# Altium schematic symbol library Библиотека УГО.SchLib: 2 symbols
Pins are listed as number, name and electrical type; pins without a type are passive.

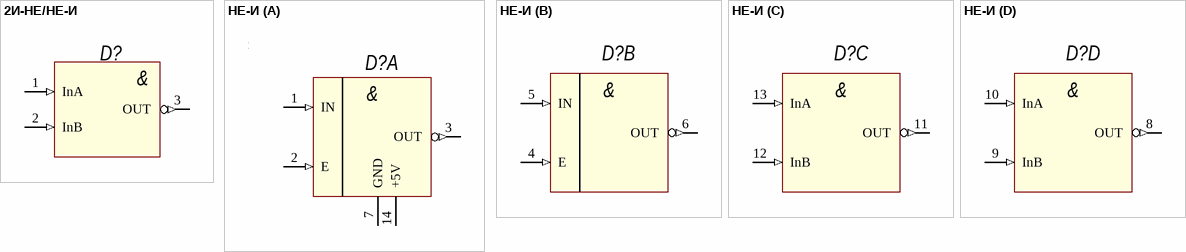
[diagram p0: symbols 2И-НЕ/НЕ-И to НЕ-И]

## 2И-НЕ/НЕ-И
designator D?  (value not drawn)
pins: 1 InA (in), 2 InB (in), 3 OUT (out)
text: &

## НЕ-И
designator D?  (value not drawn)
footprint DIP14 (К511ПУ2)
part A pins: 1 IN (in), 2 E (in), 3 OUT (out), 7 GND (power), 14 +5V (power)
part B pins: 4 E (in), 5 IN (in), 6 OUT (out)
part C pins: 11 OUT (out), 12 InB (in), 13 InA (in)
part D pins: 8 OUT (out), 9 InB (in), 10 InA (in)
part A text: &
part B text: &
part C text: &
part D text: &